# Altium footprint library FMP Power Mgt.PcbLib: 3 footprints
Each footprint in its own frame and in the unit in brackets; x right, y up, seen from the top. Pads: shape width x height; smd on the part's side, far side on the other; paste and mask are expansions set on the pad; w line width, h text height; cw(c..) or ccw(c..) is an arc to the next point about the centre after c.
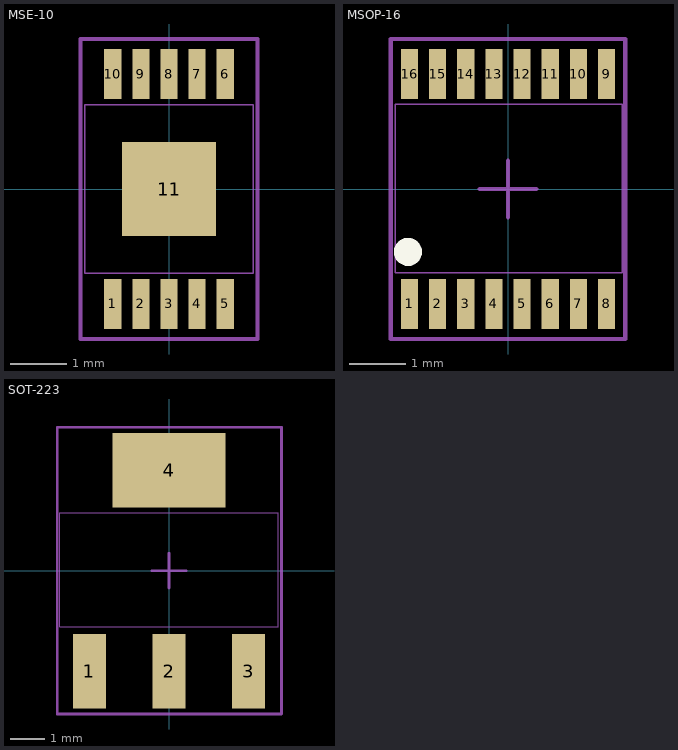
[diagram p0: the footprints below, top view; thin cyan lines are the x and y axes]

## MSE-10 [mil] "10-Lead Plastic MSOP, Exposed Die Pad"
height 43
pads (11):
  rect 12x35 smd: 1(-39.4,-80.5) 2(-19.7,-80.5) 3(0,-80.5) 4(19.7,-80.5) 5(39.4,-80.5) 6(39.4,80.5) 7(19.7,80.5) 8(0,80.5) 9(-19.7,80.5) 10(-39.4,80.5)
  rect 66x66 smd: 11(0,0)
Mechanical 13:
  lines w1: -59,-59 59,-59 59,59 -59,59 -59,-59
Mechanical 15:
  lines w3: -19.69,0 19.68,0 ; 0,-19.68 0,19.69 ; -62,-105 62,-105 62,105 -62,105 -62,-105
3D body: height 43, standoff 4, extent -59,-59 59,59

## MSOP-16 [mil] "16-Lead Plastic MSOP"
height 34
pads (16):
  rect 12x35 smd: 1(-68.95,-80.5) 2(-49.25,-80.5) 3(-29.55,-80.5) 4(-9.85,-80.5) 5(9.85,-80.5) 6(29.55,-80.5) 7(49.25,-80.5) 8(68.95,-80.5) 9(68.95,80.5) 10(49.25,80.5) 11(29.55,80.5) 12(9.85,80.5) 13(-9.85,80.5) 14(-29.55,80.5) 15(-49.25,80.5) 16(-68.95,80.5)
Top Overlay:
  circle w9.84: c-70,-44 r4.92
Mechanical 13:
  lines w1: -78.95,-58.5 80.05,-58.5 80.05,59.5 -78.95,59.5 -78.95,-58.5
Mechanical 15:
  lines w3: -19.69,0 19.68,0 ; 0,-19.69 0,19.68 ; -82,-105 -82,105 82,105 82,-105 -82,-105
3D body: height 34, standoff 4, extent -78.95,-58.5 80.05,59.5

## SOT-223 [mil] "PLASTIC SMALL-OUTLINE"
height 71
pads (4):
  rect 37.4x84.64 smd: 1(-90.55,-114.17) 2(0,-114.17) 3(90.55,-114.17)
  rect 127.95x84.64 smd: 4(0,114.17)
Mechanical 13:
  lines w1: -124,-64 124,-64 124,66 -124,66 -124,-64
Mechanical 15:
  lines w3: -19.69,0 19.68,0 ; 0,-19.68 0,19.69 ; -127,-163 128,-163 128,163 -127,163 -127,14 -127,-163
3D body: height 71, standoff 1, extent -124,-64 124,66